# EAGLE library part MICRO-SD-2CD (library micro-sd)
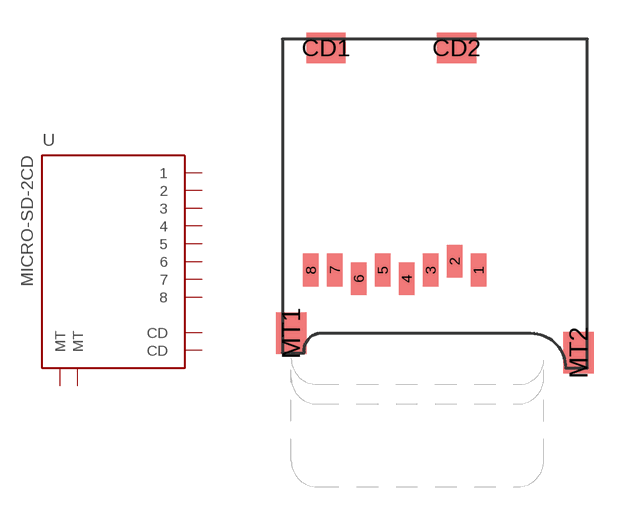
[diagram p2: symbol with the pads of TF-MICRO-SD_PP2; footprint TF-MICRO-SD_PP2]

Designator prefix -

## MICRO-SD-2CD  [TF-MICRO-SD_PP2]
1  1
2  2
3  3
4  4
5  5
6  6
7  7
8  8
CD1  CD
CD2  CD  pwr
MT1  MT  pwr
MT2  MT  pwr

## Footprint TF-MICRO-SD_PP2 (pad centres in mm)
3M # 2908-05WB-MG and 4UCON #19656
smd 0.7 x 1.5: 1 9,-10.64; 2 7.9,-10.24; 3 6.8,-10.64; 4 5.7,-11.04; 5 4.6,-10.64; 6 3.5,-11.04; 7 2.4,-10.64; 8 1.3,-10.64
smd 1.8 x 1.4: CD1 2,-0.44; CD2 8,-0.44
smd 1.4 x 1.9: MT1 0.4,-13.54; MT2 13.6,-14.44